# Altium footprint library PCB - CONNECTOR - CUI - CUI PJ-028BH.PCBLIB: 1 footprints
Each footprint in its own frame and in the unit in brackets; x right, y up, seen from the top. Pads: shape width x height; smd on the part's side, far side on the other; paste and mask are expansions set on the pad; w line width, h text height; cw(c..) or ccw(c..) is an arc to the next point about the centre after c.
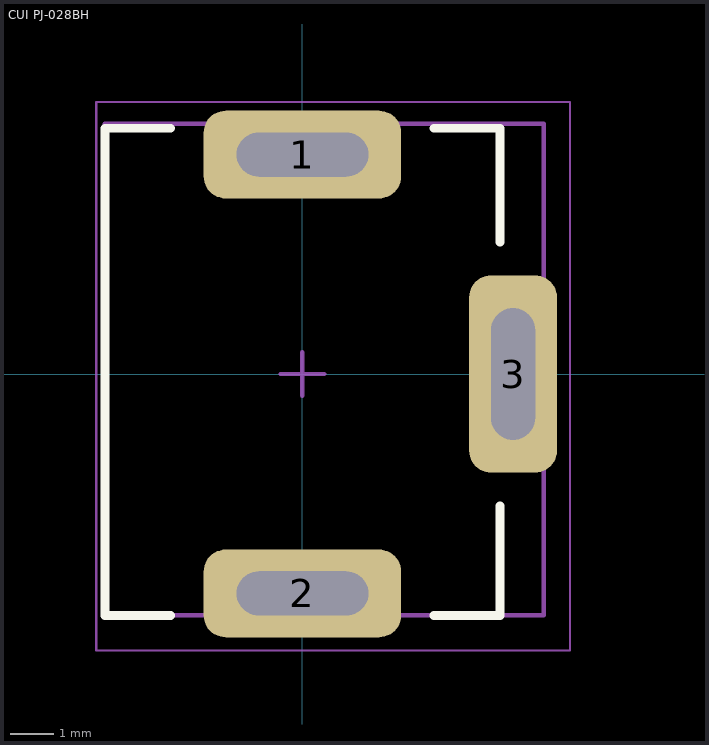
[diagram p0: the footprint, top view; thin cyan lines are the x and y axes]

## CUI PJ-028BH [mm]
height 19
pads (3):
  rrect50% 4.5x2 hole 1 slot 3 at 0 deg: 1(0,5) 2(0,-5)
  rrect50% 2x4.5 hole 1 slot 3 at 90 deg: 3(4.8,0)
Top Overlay:
  lines w0.2: -3,-5.5 -4.5,-5.5 -4.5,5.6 -3,5.6 ; 3,-5.5 4.5,-5.5 4.5,-3 ; 3,5.6 4.5,5.6 4.5,3
Mechanical 13:
  lines w0.1: -4.5,-5.5 5.5,-5.5 5.5,5.7 -4.5,5.7 -4.5,-5.5
Mechanical 15:
  lines w0.05: -4.7,-6.3 -4.7,6.2 6.1,6.2 6.1,-6.3 -4.7,-6.3
  lines w0.1: -0.5,0 0.5,0 ; 0,-0.5 0,0.5
3D body "CUI PJ-028BH.step": height 19, standoff -3.5, extent -4.5,-5.5 5.53,5.656